# Altium footprint library ap-pam.PcbLib: 22 footprints (part 2 of 2)
Each footprint in its own frame and in the unit in brackets; x right, y up, seen from the top. Pads: shape width x height; smd on the part's side, far side on the other; paste and mask are expansions set on the pad; w line width, h text height; cw(c..) or ccw(c..) is an arc to the next point about the centre after c.
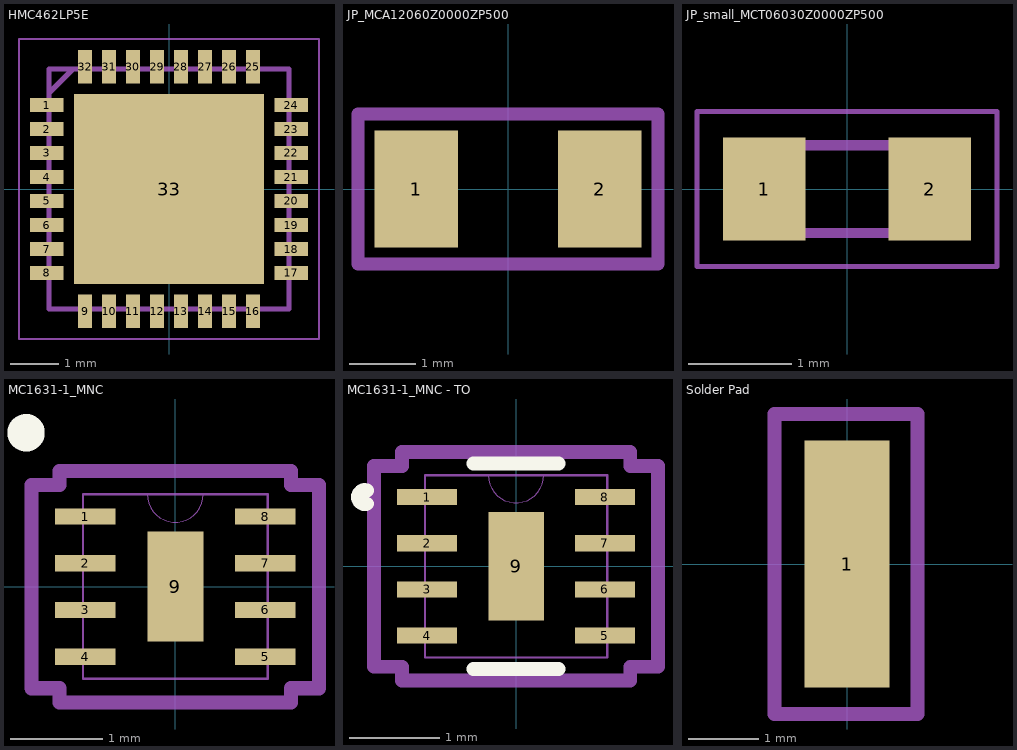
[diagram p1: the footprints below, top view; thin cyan lines are the x and y axes]

## HMC462LP5E [mm]
pads (33):
  rect 0.7x0.3 smd: 1(-2.55,1.75) 2(-2.55,1.25) 3(-2.55,0.75) 4(-2.55,0.25) 5(-2.55,-0.25) 6(-2.55,-0.75) 7(-2.55,-1.25) 8(-2.55,-1.75) 17(2.55,-1.75) 18(2.55,-1.25) 19(2.55,-0.75) 20(2.55,-0.25) 21(2.55,0.25) 22(2.55,0.75) 23(2.55,1.25) 24(2.55,1.75)
  rect 0.3x0.7 smd: 9(-1.75,-2.55) 10(-1.25,-2.55) 11(-0.75,-2.55) 12(-0.25,-2.55) 13(0.25,-2.55) 14(0.75,-2.55) 15(1.25,-2.55) 16(1.75,-2.55) 25(1.75,2.55) 26(1.25,2.55) 27(0.75,2.55) 28(0.25,2.55) 29(-0.25,2.55) 30(-0.75,2.55) 31(-1.25,2.55) 32(-1.75,2.55)
  rect 3.95x3.95 smd: 33(0,0)
Top Assembly:
  lines w0.05: -3.125,-3.125 -3.125,3.125 3.125,3.125 3.125,-3.125 -3.125,-3.125
  lines w0.1: -2.5,2 -2,2.5 ; -2.5,-2.5 -2.5,2.5 2.5,2.5 2.5,-2.5 -2.5,-2.5
  text ".Designator" at -4.499,-0.3 h0.9
3D body "HMC462LP5E.stp": height 1, standoff 0, extent -2.55,-2.55 2.55,2.55

## JP_MCA12060Z0000ZP500 [mm]
pads (2):
  rect 1.256x1.758 smd paste+0 mask+0: 1(-1.376,0) 2(1.376,0)
Top Assembly:
  lines w0.2: -2.254,-1.129 2.254,-1.129 2.254,1.129 -2.254,1.129 -2.254,-1.129
  text ".Designator" at -2.279,-0.156 h1
3D body "Res_Vishay_MCA12060D1541BP100_eec.STEP": height 0.25, standoff 0, extent -2.255,-1.129 2.253,1.129

## JP_small_MCT06030Z0000ZP500 [mm]
pads (2):
  rect 0.8x1 smd: 1(-0.8,0) 2(0.8,0)
Top Assembly:
  lines w0.05: -1.451,-0.75 1.449,-0.75 1.449,0.75 -1.451,0.75 -1.451,-0.75
  lines w0.1: -0.775,-0.426 0.775,-0.426 0.775,0.424 -0.775,0.424 -0.775,-0.426
  text ".Designator" at -2,-0.133 h0.4
3D body "JP_small_MCT06030Z0000ZP500.stp": height 0.46, standoff 0.01, extent -0.772,-0.426 0.778,0.424

## MC1631-1_MNC [mil]
pads (9):
  rect 26x7 smd paste+0 mask+0: 1(-38.5,30) 2(-38.5,10) 3(-38.5,-10) 4(-38.5,-30) 5(38.5,-30) 6(38.5,-10) 7(38.5,10) 8(38.5,30)
  rect 24x47 smd paste+0 mask+0: 9(0,0)
Top Overlay:
  circle w10: c-63.89,65.85 r3
  lines w6: -62.99,62.99 cw(c-63.89,65.85) -62.99,68.72
Top Assembly:
  lines w0: -12,39.5 ccw(c0,39.5) 12,39.5
  lines w1: -39.5,-39.5 39.5,-39.5 39.5,39.5 -39.5,39.5 -39.5,-39.5
  lines w6: -61.5,-43.5 -61.5,43.5 -49.5,43.5 -49.5,49.5 49.5,49.5 49.5,43.5 61.5,43.5 61.5,-43.5 49.5,-43.5 49.5,-49.5 -49.5,-49.5 -49.5,-43.5 -61.5,-43.5
  text ".Designator" at -98.39,-6.56 h19.68
3D body "MC1631-1_MNC.step": height 41.1, standoff 0, extent -39.49,-39.49 39.49,39.49

## MC1631-1_MNC - TO [mil]
pads (9):
  rect 26x7 smd paste+0 mask+0: 1(-38.5,30) 2(-38.5,10) 3(-38.5,-10) 4(-38.5,-30) 5(38.5,-30) 6(38.5,-10) 7(38.5,10) 8(38.5,30)
  rect 24x47 smd paste+0 mask+0: 9(0,0)
Top Overlay:
  lines w6: -64.6,27.14 cw(c-65.5,30) -64.6,32.86 ; -18.39,-44.5 18.39,-44.5 ; -18.39,44.5 18.39,44.5
Top Assembly:
  lines w0: -12,39.5 ccw(c0,39.5) 12,39.5
  lines w1: -39.5,-39.5 -39.5,39.5 39.5,39.5 39.5,-39.5 -39.5,-39.5
  lines w6: -61.5,-43.5 -49.5,-43.5 -49.5,-49.5 49.5,-49.5 49.5,-43.5 61.5,-43.5 61.5,43.5 49.5,43.5 49.5,49.5 -49.5,49.5 -49.5,43.5 -61.5,43.5 -61.5,-43.5
  text ".Designator" at -137.75,-9.18 h27.56
3D body "MC1631-1_MNC.step": height 41.1, standoff 0, extent -39.49,-39.49 39.49,39.49

## Solder Pad [mm]
pads (1):
  rect 1.2x3.5 smd paste-2539.97: 1(0,0)
Top Assembly:
  lines w0.2: -1.025,-2.125 -1.025,2.125 1,2.125 1,-2.125 -1.025,-2.125
  text ".Designator" at 0.233,-3.499 h0.7